# EAGLE library part ESP32-WROVER-I (library ESP32-WROVER-I)
Module: combo; GPIO, I2C x2, I2S x2, SDIO, SPI x3, UART x3; U.FL
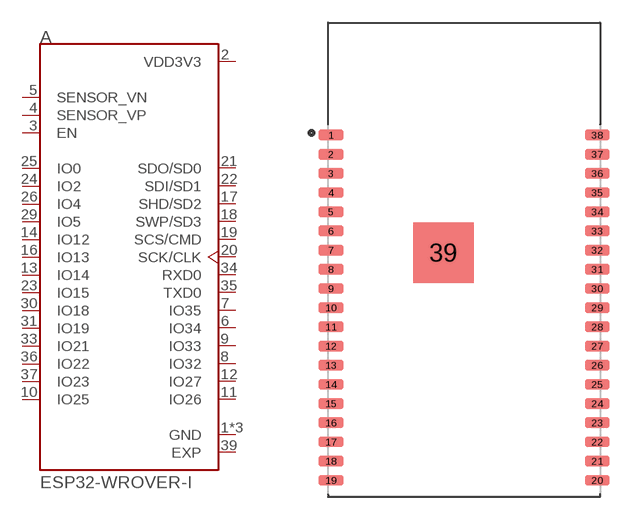
[diagram p0: symbol with the pads of XCVR_ESP32-WROVER-I; footprint XCVR_ESP32-WROVER-I]

Designator prefix A

## ESP32-WROVER-I (AVAILABILITY: Unavailable; DESCRIPTION: Module: combo; GPIO, I2C x2, I2S x2, SDIO, SPI x3, UART x3; U.FL; MF: Espressif Systems; MP: ESP32-WROVER-I; PACKAGE: Module Espressif Systems; PRICE: None)  [XCVR_ESP32-WROVER-I]
1  GND  pwr
2  VDD3V3  pwr
3  EN  in
4  SENSOR_VP  in
5  SENSOR_VN  in
6  IO34  in
7  IO35  in
8  IO32
9  IO33
10  IO25
11  IO26
12  IO27
13  IO14
14  IO12
15  GND  pwr
16  IO13
17  SHD/SD2
18  SWP/SD3
19  SCS/CMD
20  SCK/CLK
21  SDO/SD0
22  SDI/SD1
23  IO15
24  IO2
25  IO0
26  IO4
29  IO5
30  IO18
31  IO19
33  IO21
34  RXD0
35  TXD0
36  IO22
37  IO23
38  GND  pwr
39  EXP  pwr

## Footprint XCVR_ESP32-WROVER-I (pad centres in mm)
smd 1.622 x 0.711: 1 -8.81,8.26; 2 -8.81,6.99; 3 -8.81,5.72; 4 -8.81,4.45; 5 -8.81,3.18; 6 -8.81,1.91; 7 -8.81,0.64; 8 -8.81,-0.63; 9 -8.81,-1.9; 10 -8.81,-3.17; 11 -8.81,-4.44; 12 -8.81,-5.71; 13 -8.81,-6.98; 14 -8.81,-8.25; 15 -8.81,-9.52; 16 -8.81,-10.79; 17 -8.81,-12.06; 18 -8.81,-13.33; 19 -8.81,-14.6; 20 8.81,-14.6; 21 8.81,-13.33; 22 8.81,-12.06; 23 8.81,-10.79; 24 8.81,-9.52; 25 8.81,-8.25; 26 8.81,-6.98; 27 8.81,-5.71; 28 8.81,-4.44; 29 8.81,-3.17; 30 8.81,-1.9; 31 8.81,-0.63; 32 8.81,0.64; 33 8.81,1.91; 34 8.81,3.18; 35 8.81,4.45; 36 8.81,5.72; 37 8.81,6.99; 38 8.81,8.26
smd 4 x 4: 39 -1.38,0.47